# Altium footprint library QORVO_RADIO_FOOTPRINT_LIB.PcbLib: 18 footprints (part 2 of 2)
Each footprint in its own frame and in the unit in brackets; x right, y up, seen from the top. Pads: shape width x height; smd on the part's side, far side on the other; paste and mask are expansions set on the pad; w line width, h text height; cw(c..) or ccw(c..) is an arc to the next point about the centre after c.
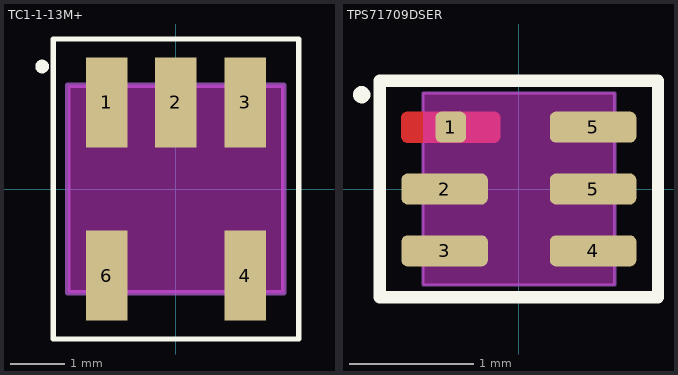
[diagram p1: the footprints below, top view; thin cyan lines are the x and y axes]

## TC1-1-13M+ [mm] "1:1 BALUN,"
pads (5):
  rect 0.76x1.65 smd: 1(-1.27,1.59) 2(0,1.59) 3(1.27,1.59) 4(1.27,-1.59) 6(-1.27,-1.59)
Top Overlay:
  circle w0.15: c-2.453,2.246 r0.05
  lines w0.1: -2.25,-2.75 -2.25,2.75 2.25,2.75 2.25,-2.75 -2.25,-2.75
Bottom Overlay:
  lines w0.1: -2.25,-2.75 -2.25,2.75 2.25,2.75 2.25,-2.75 -2.25,-2.75
Keep-Out Layer:
  rectangle: -1.98,-1.905 1.98,1.905
Mechanical 15:
  lines w0.1: -1.98,-1.905 -1.98,1.905 1.98,1.905 1.98,-1.905 -1.98,-1.905
3D body "TC1-1-13M+.stp": height 4.06, standoff 0, extent -1.905,-1.905 1.905,1.905

## TPS71709DSER [mm] "0.9V REG"
pads (6):
  rrect40% 0.25x0.25 smd mask+0.05: 1(-0.55,0.5)
  rrect40% 0.7x0.25 smd mask+0.05: 2(-0.6,0) 3(-0.6,-0.5) 4(0.6,-0.5) 5(0.6,0) 5(0.6,0.5)
Top Layer:
  region: -0.9,0.375 -0.91,0.375 -0.928,0.383 -0.942,0.397 -0.95,0.415 -0.95,0.425 -0.95,0.575 -0.95,0.585 -0.942,0.603 -0.928,0.617 -0.91,0.625 -0.9,0.625 -0.2,0.625 -0.19,0.625 -0.172,0.617 -0.158,0.603 -0.15,0.585 -0.15,0.575 -0.15,0.425 -0.15,0.415 -0.158,0.397 -0.172,0.383 -0.19,0.375 -0.2,0.375
Top Overlay:
  circle w0.08: c-1.27,0.762 r0.03
  lines w0.1: -1.125,-0.875 1.125,-0.875 1.125,0.875 -1.125,0.875 -1.125,-0.875
Bottom Overlay:
  lines w0.1: -1.125,-0.875 1.125,-0.875 1.125,0.875 -1.125,0.875 -1.125,-0.875
Keep-Out Layer:
  rectangle: -0.775,-0.775 0.775,0.775
Mechanical 13:
  lines w0.025: -0.775,-0.775 0.775,-0.775 0.775,0.775 -0.775,0.775 -0.775,-0.775
3D body "DSE0006A.stp": height 0.8, standoff 0, extent -0.75,-0.75 0.75,0.75